# Altium footprint library busbar.PCBLIB: 18 footprints (part 1 of 2)
Each footprint in its own frame and in the unit in brackets; x right, y up, seen from the top. Pads: shape width x height; smd on the part's side, far side on the other; paste and mask are expansions set on the pad; w line width, h text height; cw(c..) or ccw(c..) is an arc to the next point about the centre after c.
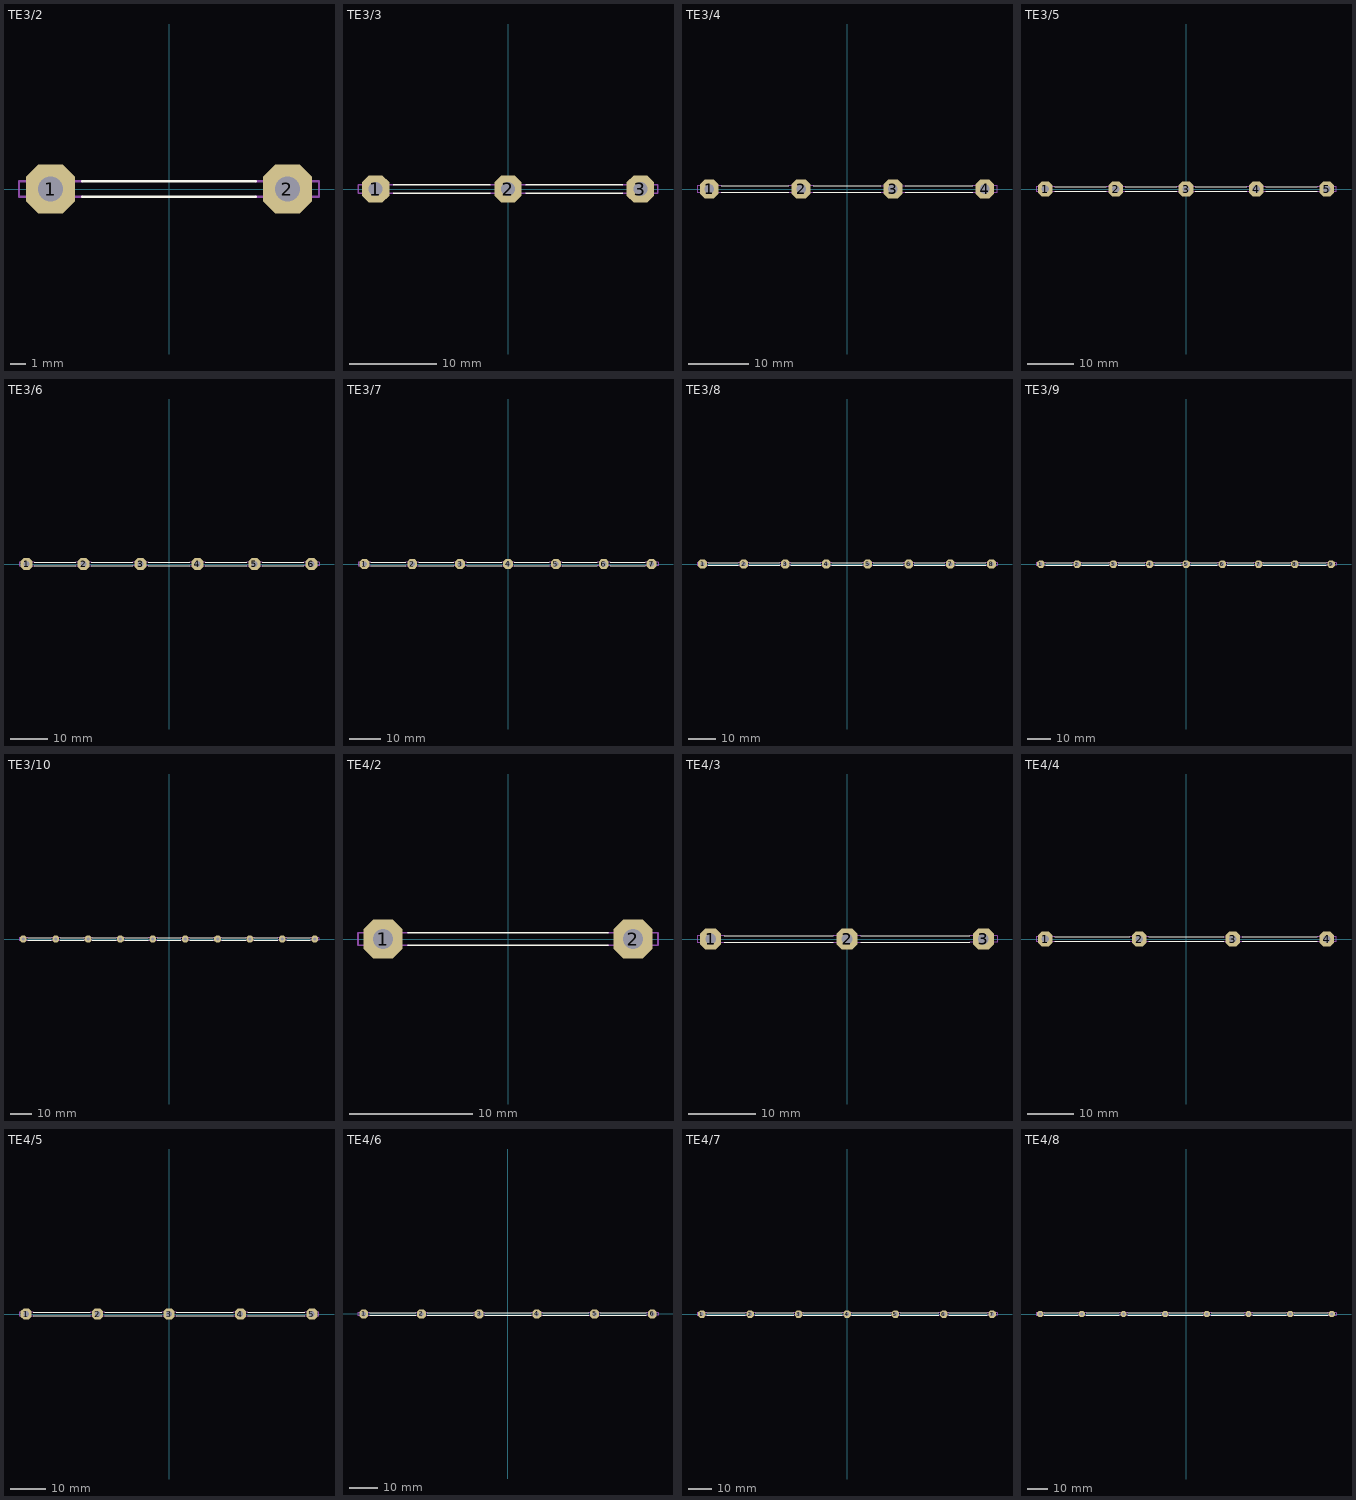
[diagram p0: the footprints below, top view; thin cyan lines are the x and y axes]

## TE3/2 [mil]
pads (2):
  oct 124x124 hole 63: 1(-300,0) 2(300,0)
Top Overlay:
  lines w6: -220,-20 220,-20 ; -220,20 220,20
Mechanical 16:
  lines w6: -220,-20 -380,-20 -380,20 -220,20 ; 220,-20 380,-20 380,20 220,20

## TE3/3 [mil]
pads (3):
  oct 124x124 hole 63: 1(-600,0) 2(0,0) 3(600,0)
Top Overlay:
  lines w6: -520,-20 -80,-20 ; -520,20 -80,20 ; 80,-20 520,-20 ; 80,20 520,20
Mechanical 16:
  lines w6: -520,-20 -680,-20 -680,20 -520,20 ; -80,-20 80,-20 ; -80,20 80,20 ; 520,-20 680,-20 680,20 520,20

## TE3/4 [mil]
pads (4):
  oct 124x124 hole 63: 1(-900,0) 2(-300,0) 3(300,0) 4(900,0)
Top Overlay:
  lines w6: -820,-20 -380,-20 ; -820,20 -380,20 ; -220,-20 220,-20 ; -220,20 220,20 ; 380,-20 820,-20 ; 380,20 820,20
Mechanical 16:
  lines w6: -820,-20 -980,-20 -980,20 -820,20 ; -380,-20 -220,-20 ; -380,20 -220,20 ; 220,-20 380,-20 ; 220,20 380,20 ; 820,-20 980,-20 980,20 820,20

## TE3/5 [mil]
pads (5):
  oct 124x124 hole 63: 1(-1200,0) 2(-600,0) 3(0,0) 4(600,0) 5(1200,0)
Top Overlay:
  lines w6: -1120,-20 -680,-20 ; -1120,20 -680,20 ; -520,-20 -80,-20 ; -520,20 -80,20 ; 80,-20 520,-20 ; 80,20 520,20 ; 680,-20 1120,-20 ; 680,20 1120,20
Mechanical 16:
  lines w6: -1120,-20 -1280,-20 -1280,20 -1120,20 ; -680,-20 -520,-20 ; -680,20 -520,20 ; -80,-20 80,-20 ; -80,20 80,20 ; 520,-20 680,-20 ; 520,20 680,20 ; 1120,-20 1280,-20 1280,20 1120,20

## TE3/6 [mil]
pads (6):
  oct 124x124 hole 63: 1(-1500,0) 2(-900,0) 3(-300,0) 4(300,0) 5(900,0) 6(1500,0)
Top Overlay:
  lines w6: -1420,-20 -980,-20 ; -1420,20 -980,20 ; -820,-20 -380,-20 ; -820,20 -380,20 ; -220,-20 220,-20 ; -220,20 220,20 ; 380,-20 820,-20 ; 380,20 820,20 ; 980,-20 1420,-20 ; 980,20 1420,20
Mechanical 16:
  lines w6: -1420,-20 -1580,-20 -1580,20 -1420,20 ; -980,-20 -820,-20 ; -980,20 -820,20 ; -380,-20 -220,-20 ; -380,20 -220,20 ; 220,-20 380,-20 ; 220,20 380,20 ; 820,-20 980,-20 ; 820,20 980,20 ; 1420,-20 1580,-20 1580,20 1420,20

## TE3/7 [mil]
pads (7):
  oct 124x124 hole 63: 1(-1800,0) 2(-1200,0) 3(-600,0) 4(0,0) 5(600,0) 6(1200,0) 7(1800,0)
Top Overlay:
  lines w6: -1720,-20 -1280,-20 ; -1720,20 -1280,20 ; -1120,-20 -680,-20 ; -1120,20 -680,20 ; -520,-20 -80,-20 ; -520,20 -80,20 ; 80,-20 520,-20 ; 80,20 520,20 ; 680,-20 1120,-20 ; 680,20 1120,20 ; 1280,-20 1720,-20 ; 1280,20 1720,20
Mechanical 16:
  lines w6: -1720,-20 -1880,-20 -1880,20 -1720,20 ; -1280,-20 -1120,-20 ; -1280,20 -1120,20 ; -680,-20 -520,-20 ; -680,20 -520,20 ; -80,-20 80,-20 ; -80,20 80,20 ; 520,-20 680,-20 ; 520,20 680,20 ; 1120,-20 1280,-20 ; 1120,20 1280,20 ; 1720,-20 1880,-20 1880,20 1720,20

## TE3/8 [mil]
pads (8):
  oct 124x124 hole 63: 1(-2100,0) 2(-1500,0) 3(-900,0) 4(-300,0) 5(300,0) 6(900,0) 7(1500,0) 8(2100,0)
Top Overlay:
  lines w6: -2020,-20 -1580,-20 ; -2020,20 -1580,20 ; -1420,-20 -980,-20 ; -1420,20 -980,20 ; -820,-20 -380,-20 ; -820,20 -380,20 ; -220,-20 220,-20 ; -220,20 220,20 ; 380,-20 820,-20 ; 380,20 820,20 ; 980,-20 1420,-20 ; 980,20 1420,20 ; 1580,-20 2020,-20 ; 1580,20 2020,20
Mechanical 16:
  lines w6: -2020,-20 -2180,-20 -2180,20 -2020,20 ; -1580,-20 -1420,-20 ; -1580,20 -1420,20 ; -980,-20 -820,-20 ; -980,20 -820,20 ; -380,-20 -220,-20 ; -380,20 -220,20 ; 220,-20 380,-20 ; 220,20 380,20 ; 820,-20 980,-20 ; 820,20 980,20 ; 1420,-20 1580,-20 ; 1420,20 1580,20 ; 2020,-20 2180,-20 2180,20 2020,20

## TE3/9 [mil]
pads (9):
  oct 124x124 hole 63: 1(-2400,0) 2(-1800,0) 3(-1200,0) 4(-600,0) 5(0,0) 6(600,0) 7(1200,0) 8(1800,0) 9(2400,0)
Top Overlay:
  lines w6: -2320,-20 -1880,-20 ; -2320,20 -1880,20 ; -1720,-20 -1280,-20 ; -1720,20 -1280,20 ; -1120,-20 -680,-20 ; -1120,20 -680,20 ; -520,-20 -80,-20 ; -520,20 -80,20 ; 80,-20 520,-20 ; 80,20 520,20 ; 680,-20 1120,-20 ; 680,20 1120,20 ; 1280,-20 1720,-20 ; 1280,20 1720,20 ; 1880,-20 2320,-20 ; 1880,20 2320,20
Mechanical 16:
  lines w6: -2320,-20 -2480,-20 -2480,20 -2320,20 ; -1880,-20 -1720,-20 ; -1880,20 -1720,20 ; -1280,-20 -1120,-20 ; -1280,20 -1120,20 ; -680,-20 -520,-20 ; -680,20 -520,20 ; -80,-20 80,-20 ; -80,20 80,20 ; 520,-20 680,-20 ; 520,20 680,20 ; 1120,-20 1280,-20 ; 1120,20 1280,20 ; 1720,-20 1880,-20 ; 1720,20 1880,20 ; 2320,-20 2480,-20 2480,20 2320,20

## TE3/10 [mil]
pads (10):
  oct 124x124 hole 63: 1(-2700,0) 2(-2100,0) 3(-1500,0) 4(-900,0) 5(-300,0) 6(300,0) 7(900,0) 8(1500,0) 9(2100,0) 10(2700,0)
Top Overlay:
  lines w6: -2620,-20 -2180,-20 ; -2620,20 -2180,20 ; -2020,-20 -1580,-20 ; -2020,20 -1580,20 ; -1420,-20 -980,-20 ; -1420,20 -980,20 ; -820,-20 -380,-20 ; -820,20 -380,20 ; -220,-20 220,-20 ; -220,20 220,20 ; 380,-20 820,-20 ; 380,20 820,20 ; 980,-20 1420,-20 ; 980,20 1420,20 ; 1580,-20 2020,-20 ; 1580,20 2020,20 ; 2180,-20 2620,-20 ; 2180,20 2620,20
Mechanical 16:
  lines w6: -2620,-20 -2780,-20 -2780,20 -2620,20 ; -2180,-20 -2020,-20 ; -2180,20 -2020,20 ; -1580,-20 -1420,-20 ; -1580,20 -1420,20 ; -980,-20 -820,-20 ; -980,20 -820,20 ; -380,-20 -220,-20 ; -380,20 -220,20 ; 220,-20 380,-20 ; 220,20 380,20 ; 820,-20 980,-20 ; 820,20 980,20 ; 1420,-20 1580,-20 ; 1420,20 1580,20 ; 2020,-20 2180,-20 ; 2020,20 2180,20 ; 2620,-20 2780,-20 2780,20 2620,20

## TE4/2 [mil]
pads (2):
  oct 124x124 hole 63: 1(-400,0) 2(400,0)
Top Overlay:
  lines w6: -320,-20 320,-20 ; -320,20 320,20
Mechanical 16:
  lines w6: -320,-20 -480,-20 -480,20 -320,20 ; 320,-20 480,-20 480,20 320,20

## TE4/3 [mil]
pads (3):
  oct 124x124 hole 63: 1(-800,0) 2(0,0) 3(800,0)
Top Overlay:
  lines w6: -720,-20 -80,-20 ; -720,20 -80,20 ; 80,-20 720,-20 ; 80,20 720,20
Mechanical 16:
  lines w6: -720,-20 -880,-20 -880,20 -720,20 ; -80,-20 80,-20 ; -80,20 80,20 ; 720,-20 880,-20 880,20 720,20

## TE4/4 [mil]
pads (4):
  oct 124x124 hole 63: 1(-1200,0) 2(-400,0) 3(400,0) 4(1200,0)
Top Overlay:
  lines w6: -1120,-20 -480,-20 ; -1120,20 -480,20 ; -320,-20 320,-20 ; -320,20 320,20 ; 480,-20 1120,-20 ; 480,20 1120,20
Mechanical 16:
  lines w6: -1120,-20 -1280,-20 -1280,20 -1120,20 ; -480,-20 -320,-20 ; -480,20 -320,20 ; 320,-20 480,-20 ; 320,20 480,20 ; 1120,-20 1280,-20 1280,20 1120,20

## TE4/5 [mil]
pads (5):
  oct 124x124 hole 63: 1(-1600,0) 2(-800,0) 3(0,0) 4(800,0) 5(1600,0)
Top Overlay:
  lines w6: -1520,-20 -880,-20 ; -1520,20 -880,20 ; -720,-20 -80,-20 ; -720,20 -80,20 ; 80,-20 720,-20 ; 80,20 720,20 ; 880,-20 1520,-20 ; 880,20 1520,20
Mechanical 16:
  lines w6: -1520,-20 -1680,-20 -1680,20 -1520,20 ; -880,-20 -720,-20 ; -880,20 -720,20 ; -80,-20 80,-20 ; -80,20 80,20 ; 720,-20 880,-20 ; 720,20 880,20 ; 1520,-20 1680,-20 1680,20 1520,20

## TE4/6 [mil]
pads (6):
  oct 124x124 hole 63: 1(-2000,0) 2(-1200,0) 3(-400,0) 4(400,0) 5(1200,0) 6(2000,0)
Top Overlay:
  lines w6: -1920,-20 -1280,-20 ; -1920,20 -1280,20 ; -1120,-20 -480,-20 ; -1120,20 -480,20 ; -320,-20 320,-20 ; -320,20 320,20 ; 480,-20 1120,-20 ; 480,20 1120,20 ; 1280,-20 1920,-20 ; 1280,20 1920,20
Mechanical 16:
  lines w6: -1920,-20 -2080,-20 -2080,20 -1920,20 ; -1280,-20 -1120,-20 ; -1280,20 -1120,20 ; -480,-20 -320,-20 ; -480,20 -320,20 ; 320,-20 480,-20 ; 320,20 480,20 ; 1120,-20 1280,-20 ; 1120,20 1280,20 ; 1920,-20 2080,-20 2080,20 1920,20

## TE4/7 [mil]
pads (7):
  oct 124x124 hole 63: 1(-2400,0) 2(-1600,0) 3(-800,0) 4(0,0) 5(800,0) 6(1600,0) 7(2400,0)
Top Overlay:
  lines w6: -2320,-20 -1680,-20 ; -2320,20 -1680,20 ; -1520,-20 -880,-20 ; -1520,20 -880,20 ; -720,-20 -80,-20 ; -720,20 -80,20 ; 80,-20 720,-20 ; 80,20 720,20 ; 880,-20 1520,-20 ; 880,20 1520,20 ; 1680,-20 2320,-20 ; 1680,20 2320,20
Mechanical 16:
  lines w6: -2320,-20 -2480,-20 -2480,20 -2320,20 ; -1680,-20 -1520,-20 ; -1680,20 -1520,20 ; -880,-20 -720,-20 ; -880,20 -720,20 ; -80,-20 80,-20 ; -80,20 80,20 ; 720,-20 880,-20 ; 720,20 880,20 ; 1520,-20 1680,-20 ; 1520,20 1680,20 ; 2320,-20 2480,-20 2480,20 2320,20

## TE4/8 [mil]
pads (8):
  oct 124x124 hole 63: 1(-2800,0) 2(-2000,0) 3(-1200,0) 4(-400,0) 5(400,0) 6(1200,0) 7(2000,0) 8(2800,0)
Top Overlay:
  lines w6: -2720,-20 -2080,-20 ; -2720,20 -2080,20 ; -1920,-20 -1280,-20 ; -1920,20 -1280,20 ; -1120,-20 -480,-20 ; -1120,20 -480,20 ; -320,-20 320,-20 ; -320,20 320,20 ; 480,-20 1120,-20 ; 480,20 1120,20 ; 1280,-20 1920,-20 ; 1280,20 1920,20 ; 2080,-20 2720,-20 ; 2080,20 2720,20
Mechanical 16:
  lines w6: -2720,-20 -2880,-20 -2880,20 -2720,20 ; -2080,-20 -1920,-20 ; -2080,20 -1920,20 ; -1280,-20 -1120,-20 ; -1280,20 -1120,20 ; -480,-20 -320,-20 ; -480,20 -320,20 ; 320,-20 480,-20 ; 320,20 480,20 ; 1120,-20 1280,-20 ; 1120,20 1280,20 ; 1920,-20 2080,-20 ; 1920,20 2080,20 ; 2720,-20 2880,-20 2880,20 2720,20